# EAGLE library part LM26480 (library texas-instruments)
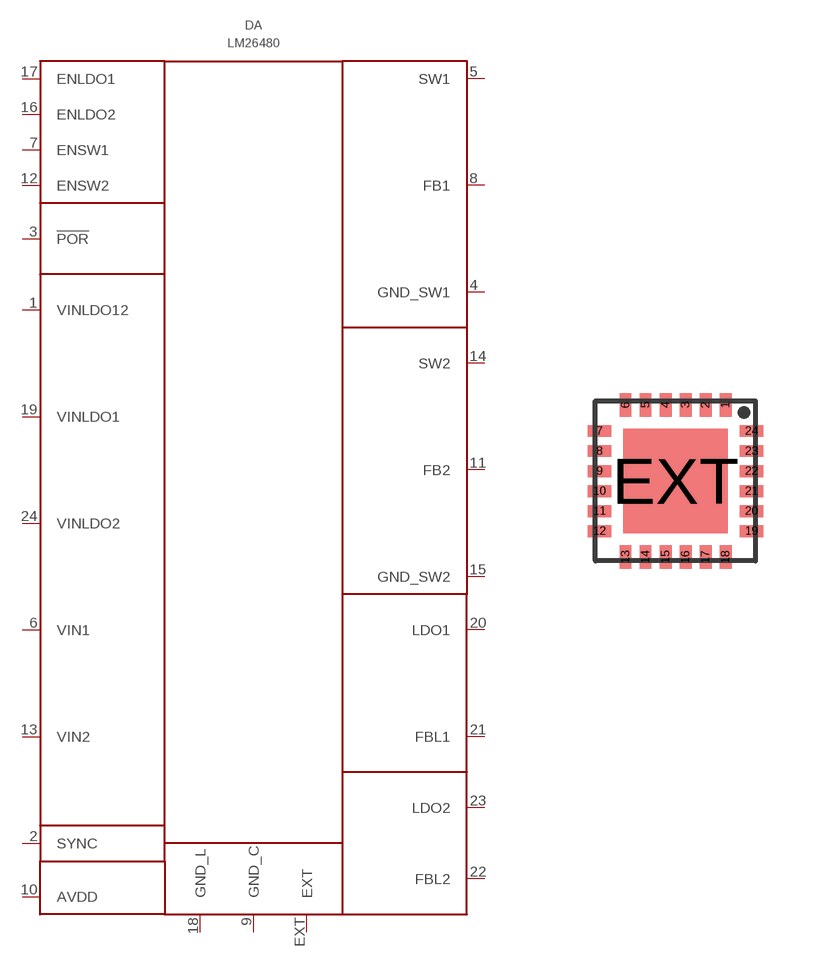
[diagram p5: symbol with the pads of WQFN24; footprint WQFN24]

Designator prefix DA

## LM26480SQ-AA/NOPB  [WQFN24]
1  VINLDO12  pwr
2  SYNC  in
3  !POR  out
4  GND_SW1  pwr
5  SW1  pwr
6  VIN1  pwr
7  ENSW1  pwr
8  FB1  pwr
9  GND_C  pwr
10  AVDD  pwr
11  FB2  pwr
12  ENSW2  pwr
13  VIN2  pwr
14  SW2  pwr
15  GND_SW2  pwr
16  ENLDO2  in
17  ENLDO1  in
18  GND_L  pwr
19  VINLDO1  pwr
20  LDO1  pwr
21  FBL1  in
22  FBL2  in
23  LDO2  pwr
24  VINLDO2  pwr
EXT  EXT  pwr

## Footprint WQFN24 (pad centres in mm)
smd 0.3 x 0.6: 1 1.25,1.9; 2 0.75,1.9; 3 0.25,1.9; 4 -0.25,1.9; 5 -0.75,1.9; 6 -1.25,1.9; 13 -1.25,-1.9; 14 -0.75,-1.9; 15 -0.25,-1.9; 16 0.25,-1.9; 17 0.75,-1.9; 18 1.25,-1.9
smd 0.6 x 0.3: 7 -1.9,1.25; 8 -1.9,0.75; 9 -1.9,0.25; 10 -1.9,-0.25; 11 -1.9,-0.75; 12 -1.9,-1.25; 19 1.9,-1.25; 20 1.9,-0.75; 21 1.9,-0.25; 22 1.9,0.25; 23 1.9,0.75; 24 1.9,1.25
smd 2.6 x 2.6: EXT 0,0